# EAGLE library part LOWDERLIB_PCM2707C_TQFP32 (library PCM2707_DAC)
Stereo Audio DAC with USB Interface, Single-Ended Headphone Output, and S/PDIF Output
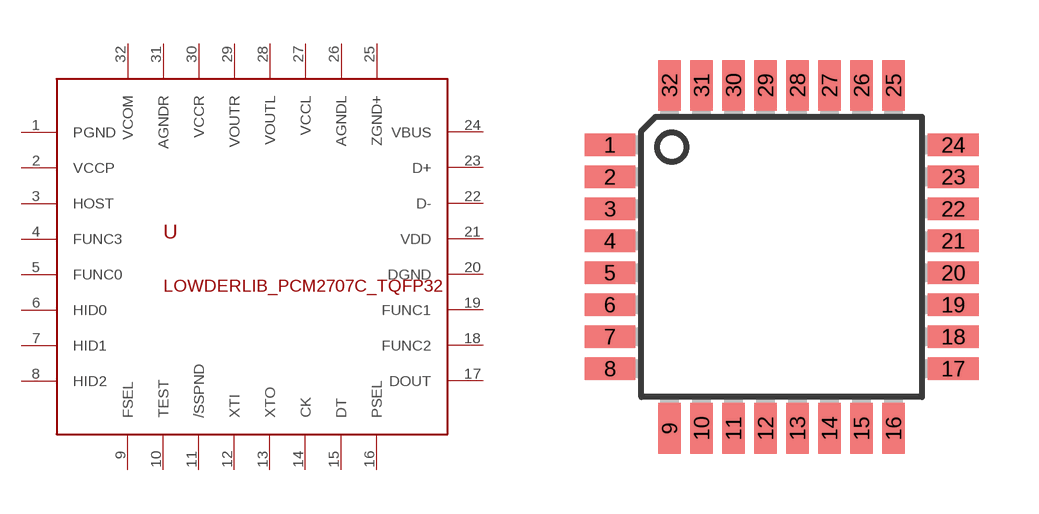
[diagram p0: symbol with the pads of LOWDERLIB_32TQFP_PCM2707C; footprint LOWDERLIB_32TQFP_PCM2707C]

Designator prefix U

## LOWDERLIB_PCM2707C_TQFP32"  [LOWDERLIB_32TQFP_PCM2707C]
1  PGND
2  VCCP
3  HOST
4  FUNC3
5  FUNC0
6  HID0
7  HID1
8  HID2
9  FSEL
10  TEST
11  /SSPND
12  XTI
13  XTO
14  CK
15  DT
16  PSEL
17  DOUT
18  FUNC2
19  FUNC1
20  DGND
21  VDD
22  D-
23  D+
24  VBUS
25  ZGND+
26  AGNDL
27  VCCL
28  VOUTL
29  VOUTR
30  VCCR
31  AGNDR
32  VCOM

## Footprint LOWDERLIB_32TQFP_PCM2707C (pad centres in mm)
smd 1.27 x 0.559: 1 -4.293,2.8; 2 -4.293,2; 3 -4.293,1.2; 4 -4.293,0.4; 5 -4.293,-0.4; 6 -4.293,-1.2; 7 -4.293,-2; 8 -4.293,-2.8; 17 4.293,-2.8; 18 4.293,-2; 19 4.293,-1.2; 20 4.293,-0.4; 21 4.293,0.4; 22 4.293,1.2; 23 4.293,2; 24 4.293,2.8
smd 0.559 x 1.27: 9 -2.8,-4.293; 10 -2,-4.293; 11 -1.2,-4.293; 12 -0.4,-4.293; 13 0.4,-4.293; 14 1.2,-4.293; 15 2,-4.293; 16 2.8,-4.293; 25 2.8,4.293; 26 2,4.293; 27 1.2,4.293; 28 0.4,4.293; 29 -0.4,4.293; 30 -1.2,4.293; 31 -2,4.293; 32 -2.8,4.293